# Altium footprint library Feed Through Capacitors.PcbLib: 2 footprints
Each footprint in its own frame and in the unit in brackets; x right, y up, seen from the top. Pads: shape width x height; smd on the part's side, far side on the other; paste and mask are expansions set on the pad; w line width, h text height; cw(c..) or ccw(c..) is an arc to the next point about the centre after c.
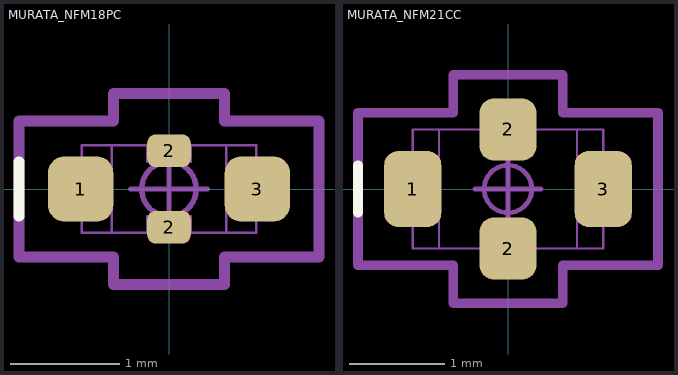
[diagram p0: the footprints below, top view; thin cyan lines are the x and y axes]

## MURATA_NFM18PC [mm]
pads (4):
  rrect51% 0.6x0.6 smd mask+0.04: 1(-0.81,0) 3(0.81,0)
  rrect51% 0.4x0.3 smd mask+0.04: 2(0,-0.35) 2(0,0.35)
Top Overlay:
  lines w0.1: -1.375,-0.25 -1.375,0.25
Mechanical 13:
  lines w0.025: -0.525,-0.4 -0.525,0.4 ; -0.2,-0.4 -0.2,-0.25 0.2,-0.25 0.2,-0.4 ; -0.2,0.4 -0.2,0.25 0.2,0.25 0.2,0.4 ; 0.525,-0.4 0.525,0.4 ; -0.8,-0.4 -0.8,0.4 0.8,0.4 0.8,-0.4 -0.8,-0.4
Mechanical 15:
  circle w0.05: c0,0 r0.25
  lines w0.05: -0.35,0 0.35,0 ; 0,-0.35 0,0.35
  lines w0.1: -1.375,-0.625 -1.375,0.625 -0.508,0.625 -0.508,0.875 0.508,0.875 0.508,0.625 1.375,0.625 1.375,-0.625 0.508,-0.625 0.508,-0.875 -0.508,-0.875 -0.508,-0.625 -1.375,-0.625
3D body: height 0.25, standoff 0, extent 0,0 0.254,0.254
3D body "User Library-Murata_NFM18PC_2Amp.STEP": height 0.6, standoff 0, extent -0.8,-0.4 0.8,0.4

## MURATA_NFM21CC [mm]
pads (4):
  rrect49% 0.6x0.8 smd mask+0.04: 1(-1,0) 3(1,0)
  rrect50% 0.6x0.65 smd mask+0.04: 2(0,-0.625) 2(0,0.625)
Top Overlay:
  lines w0.1: -1.575,-0.25 -1.575,0.25
Mechanical 13:
  lines w0.025: -0.725,-0.625 -0.725,0.625 ; -0.25,-0.625 -0.25,-0.35 0.25,-0.35 0.25,-0.625 ; -0.25,0.625 -0.25,0.35 0.25,0.35 0.25,0.625 ; 0.725,-0.625 0.725,0.625 ; -1,-0.625 -1,0.625 1,0.625 1,-0.625 -1,-0.625
Mechanical 15:
  circle w0.05: c0,0 r0.25
  lines w0.05: -0.35,0 0.35,0 ; 0,-0.35 0,0.35
  lines w0.1: -1.575,-0.8 -1.575,0.8 -0.575,0.8 -0.575,1.2 0.575,1.2 0.575,0.8 1.575,0.8 1.575,-0.8 0.575,-0.8 0.575,-1.2 -0.575,-1.2 -0.575,-0.8 -1.575,-0.8
3D body "User Library-Murata_NFM21C.STEP": height 0.85, standoff 0, extent -1,-0.625 1,0.625
3D body: height 0.25, standoff 0, extent 0,0 0.254,0.254